# EAGLE library part USB_SPI_CLICK (library USB_SPI_Click)
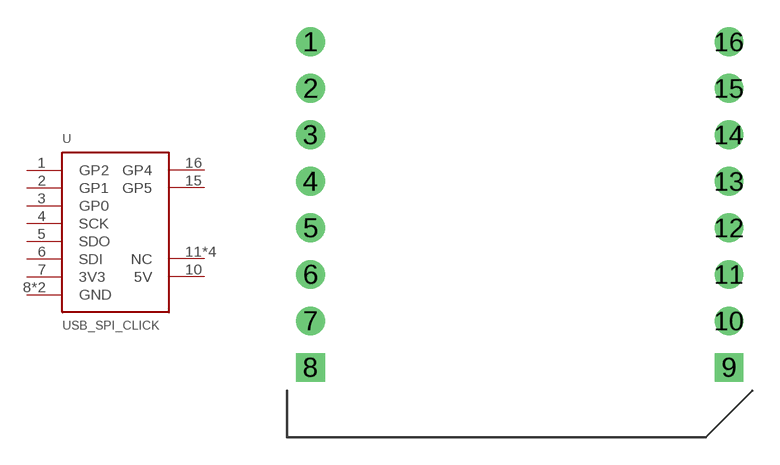
[diagram p0: symbol with the pads of MIKROBUS; footprint MIKROBUS]

Designator prefix U

## USB_SPI_CLICK  [MIKROBUS]
1  GP2
2  GP1
3  GP0
4  SCK
5  SDO
6  SDI
7  3V3
8  GND
9  GND
10  5V
11  NC
12  NC
13  NC
14  NC
15  GP5
16  GP4

## Footprint MIKROBUS (pad centres in mm)
drill 1.04: 1 0,17.78; 2 0,15.24; 3 0,12.7; 4 0,10.16; 5 0,7.62; 6 0,5.08; 7 0,2.54; 10 22.86,2.54; 11 22.86,5.08; 12 22.86,7.62; 13 22.86,10.16; 14 22.86,12.7; 15 22.86,15.24; 16 22.86,17.78
drill 1.04 square: 8 0,0; 9 22.86,0